# Altium schematic symbol library Controller-RK3562.SCHLIB: 538 symbols (part 2 of 5)
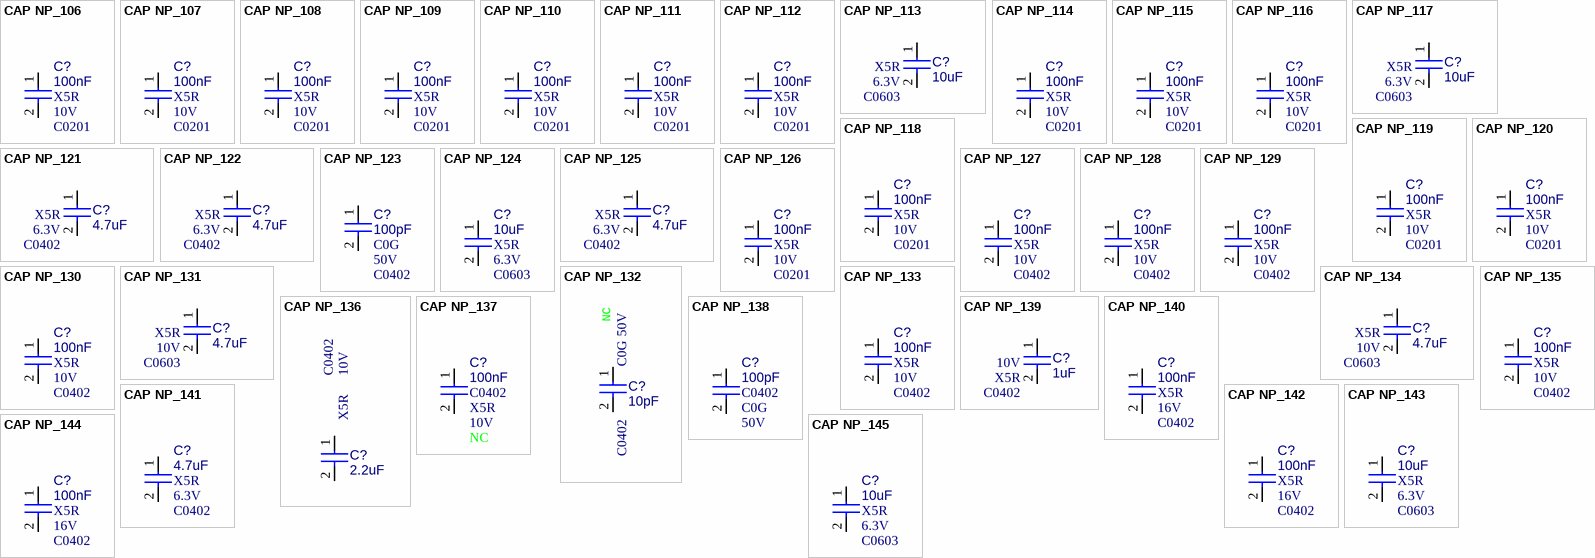
[diagram p21: symbols CAP NP_106 to CAP NP_145]

## CAP NP_125
designator C?, comment 4.7uF  Dielectric: X5R  PCB Footprint: C0402  Voltage: 6.3V
cap,4.70uF,+/-10%,6.3V,X5R,C0402; Part Reference: C3064; Manufacturer PN: C1005X5R0J475K050BC; Manufacturer: TDK; Tolerance: 10%; Priority: A; Number: 37; Value: 4.7uF; Created by: JJJ; C_Voltage: 6.3V; Part Type: C0402; RK PN: C1005X5R0J475K050BC; ClassName: RK
footprint C0402
pins: 1, 2

## CAP NP_126
designator C?, comment 100nF  Dielectric: X5R  PCB Footprint: C0201  Voltage: 10V
cap,100.00nF,+/-10%,10V,X5R,C0201; Part Reference: C3066; Manufacturer: TDK; RK PN: C0603X5R1A104K030BC; Priority: A; Tolerance: 10%; Value: 100nF; Part Type: C0201; Manufacturer PN: C0603X5R1A104K030BC; Created by: JJJ; ClassName: RK
footprint C0201
pins: 1, 2

## CAP NP_127
designator C?, comment 100nF  Dielectric: X5R  PCB Footprint: C0402  Voltage: 10V
cap,100.00nF,+/-10%,10V,X5R,C0402; Part Reference: C4000; Manufacturer PN: C1005X5R1A104K050BA; Manufacturer: TDK; Tolerance: 10%; Priority: A; Value: 100nF; Created by: JJJ; Part Type: C0402; RK PN: C1005X5R1A104K050BA; ClassName: RK
footprint C0402
pins: 1, 2

## CAP NP_128
designator C?, comment 100nF  Dielectric: X5R  PCB Footprint: C0402  Voltage: 10V
cap,100.00nF,+/-10%,10V,X5R,C0402; Part Reference: C4001; Manufacturer: TDK; RK PN: C1005X5R1A104K050BA; Priority: A; Tolerance: 10%; Value: 100nF; Part Type: C0402; Manufacturer PN: C1005X5R1A104K050BA; Created by: JJJ; ClassName: RK
footprint C0402
pins: 1, 2

## CAP NP_129
designator C?, comment 100nF  Dielectric: X5R  PCB Footprint: C0402  Voltage: 10V
cap,100.00nF,+/-10%,10V,X5R,C0402; Part Reference: C4002; Manufacturer: TDK; RK PN: C1005X5R1A104K050BA; Priority: A; Tolerance: 10%; Value: 100nF; Part Type: C0402; Manufacturer PN: C1005X5R1A104K050BA; Created by: JJJ; ClassName: RK
footprint C0402
pins: 1, 2

## CAP NP_130
designator C?, comment 100nF  Dielectric: X5R  PCB Footprint: C0402  Voltage: 10V
cap,100.00nF,+/-10%,10V,X5R,C0402; Part Reference: C4003; Manufacturer PN: C1005X5R1A104K050BA; Manufacturer: TDK; Tolerance: 10%; Priority: A; Value: 100nF; Created by: JJJ; Part Type: C0402; RK PN: C1005X5R1A104K050BA; ClassName: RK
footprint C0402
pins: 1, 2

## CAP NP_131
designator C?, comment 4.7uF  Dielectric: X5R  PCB Footprint: C0603  Voltage: 10V
cap,4.70uF,+/-10%,10V,X5R,C0603; Part Reference: C4004; Manufacturer: TDK; Number: 37; RK PN: C1608X5R1A475K080AC; Priority: A; Tolerance: 10%; C_Voltage: 6.3V; Value: 4.7uF; Part Type: C0603; Manufacturer PN: C1608X5R1A475K080AC; Created by: JJJ; ClassName: RK
footprint C0603
pins: 1, 2

## CAP NP_132
designator C?, comment 10pF  Dielectric: C0G  PCB Footprint: C0402  Voltage: 50V  option: NC
cap,10.00pF,+/-0.5,50V,C0G,C0402; Part Reference: C4005; Manufacturer: TDK; RK PN: C1005C0G1H100D050BA; Priority: A; Tolerance: +/-0.5pF; Value: 10pF; Part Type: C0402; Manufacturer PN: C1005C0G1H100D050BA; Created by: JJJ; ClassName: RK
footprint C0402
pins: 1, 2

## CAP NP_133
designator C?, comment 100nF  Dielectric: X5R  PCB Footprint: C0402  Voltage: 10V
cap,100.00nF,+/-10%,10V,X5R,C0402; Part Reference: C4006; Manufacturer PN: C1005X5R1A104K050BA; Manufacturer: TDK; Tolerance: 10%; Priority: A; Value: 100nF; Created by: JJJ; Part Type: C0402; RK PN: C1005X5R1A104K050BA; ClassName: RK
footprint C0402
pins: 1, 2

## CAP NP_134
designator C?, comment 4.7uF  Dielectric: X5R  PCB Footprint: C0603  Voltage: 10V
cap,4.70uF,+/-10%,10V,X5R,C0603; Part Reference: C4007; Manufacturer: TDK; Number: 37; RK PN: C1608X5R1A475K080AC; Priority: A; Tolerance: 10%; C_Voltage: 6.3V; Value: 4.7uF; Part Type: C0603; Manufacturer PN: C1608X5R1A475K080AC; Created by: JJJ; ClassName: RK
footprint C0603
pins: 1, 2

## CAP NP_135
designator C?, comment 100nF  Dielectric: X5R  PCB Footprint: C0402  Voltage: 10V
cap,100.00nF,+/-10%,10V,X5R,C0402; Part Reference: C4008; Manufacturer PN: C1005X5R1A104K050BA; Manufacturer: TDK; Tolerance: 10%; Priority: A; Value: 100nF; Created by: JJJ; Part Type: C0402; RK PN: C1005X5R1A104K050BA; ClassName: RK
footprint C0402
pins: 1, 2

## CAP NP_136
designator C?, comment 2.2uF  Dielectric: X5R  PCB Footprint: C0402  Voltage: 10V
cap,2.20uF,+/-10%,10V,X5R,C0402; Part Reference: C4009; Manufacturer: TDK; RK PN: C1005X5R1A225K050BC; Priority: A; Tolerance: 10%; Value: 2.2uF; Part Type: C0402; Manufacturer PN: C1005X5R1A225K050BC; Created by: JJJ; ClassName: RK
footprint C0402
pins: 1, 2

## CAP NP_137
designator C?, comment 100nF  Dielectric: X5R  PCB Footprint: C0402  Voltage: 10V  option: NC
cap,100.00nF,+/-10%,10V,X5R,C0402; Part Reference: C4010; Manufacturer PN: C1005X5R1A104K050BA; Manufacturer: TDK; Tolerance: 10%; Priority: A; Value: 100nF; Created by: JJJ; Part Type: C0402; RK PN: C1005X5R1A104K050BA; ClassName: RK
footprint C0402
pins: 1, 2

## CAP NP_138
designator C?, comment 100pF  Dielectric: C0G  PCB Footprint: C0402  Voltage: 50V
cap,100.00pF,+/-10%,50V,C0G,C0402; Part Reference: C7007; Manufacturer PN: C1005C0G1H101K050BA; Manufacturer: TDK; Tolerance: 10%; Priority: A; Value: 100pF; Created by: JJJ; Part Type: C0402; RK PN: C1005C0G1H101K050BA
footprint C0402
pins: 1, 2

## CAP NP_139
designator C?, comment 1uF  Dielectric: X5R  PCB Footprint: C0402  Voltage: 10V
cap,1.00uF,+/-10%,10V,X5R,C0402; Part Reference: C7005; Manufacturer: TDK; RK PN: C1005X5R1A105K050BB; Priority: A; Tolerance: 10%; Value: 1uF; Part Type: C0402; Manufacturer PN: C1005X5R1A105K050BB; Created by: JJJ
footprint C0402
pins: 1, 2

## CAP NP_140
designator C?, comment 100nF  Dielectric: X5R  PCB Footprint: C0402  Voltage: 16V
cap,100.00nF,+/-10%,16V,X5R,C0402; Part Reference: C4500; Manufacturer PN: C1005X5R1C104K050BA; Manufacturer: TDK; Tolerance: 10%; Priority: A; Value: 100nF; Created by: JJJ; Part Type: C0402; RK PN: C1005X5R1C104K050BA
footprint C0402
pins: 1, 2

## CAP NP_141
designator C?, comment 4.7uF  Dielectric: X5R  PCB Footprint: C0402  Voltage: 6.3V
cap,4.70uF,+/-10%,6.3V,X5R,C0402; Part Reference: C4501; Manufacturer PN: C1005X5R0J475K050BC; Manufacturer: TDK; Tolerance: 10%; Priority: A; Value: 4.7uF; Created by: JJJ; Part Type: C0402; RK PN: C1005X5R0J475K050BC
footprint C0402
pins: 1, 2

## CAP NP_142
designator C?, comment 100nF  Dielectric: X5R  PCB Footprint: C0402  Voltage: 16V
cap,100.00nF,+/-10%,16V,X5R,C0402; Part Reference: C4502; Manufacturer PN: C1005X5R1C104K050BA; Manufacturer: TDK; Tolerance: 10%; Priority: A; Value: 100nF; Created by: JJJ; Part Type: C0402; RK PN: C1005X5R1C104K050BA
footprint C0402
pins: 1, 2

## CAP NP_143
designator C?, comment 10uF  Dielectric: X5R  PCB Footprint: C0603  Voltage: 6.3V
cap,10.00uF,+/-10%,6.3V,X5R,C0603; Part Reference: C4503; Manufacturer PN: C1608X5R0J106K080AB; Manufacturer: TDK; Tolerance: 10%; Priority: A; Value: 10uF; Created by: JJJ; Part Type: C0603; RK PN: C1608X5R0J106K080AB
footprint C0603
pins: 1, 2

## CAP NP_144
designator C?, comment 100nF  Dielectric: X5R  PCB Footprint: C0402  Voltage: 16V
cap,100.00nF,+/-10%,16V,X5R,C0402; Part Reference: C4504; Manufacturer: TDK; RK PN: C1005X5R1C104K050BA; Priority: A; Tolerance: 10%; Value: 100nF; Part Type: C0402; Manufacturer PN: C1005X5R1C104K050BA; Created by: JJJ
footprint C0402
pins: 1, 2

## CAP NP_145
designator C?, comment 10uF  Dielectric: X5R  PCB Footprint: C0603  Voltage: 6.3V
cap,10.00uF,+/-10%,6.3V,X5R,C0603; Part Reference: C4505; Manufacturer: TDK; RK PN: C1608X5R0J106K080AB; Priority: A; Tolerance: 10%; Value: 10uF; Part Type: C0603; Manufacturer PN: C1608X5R0J106K080AB; Created by: JJJ
footprint C0603
pins: 1, 2

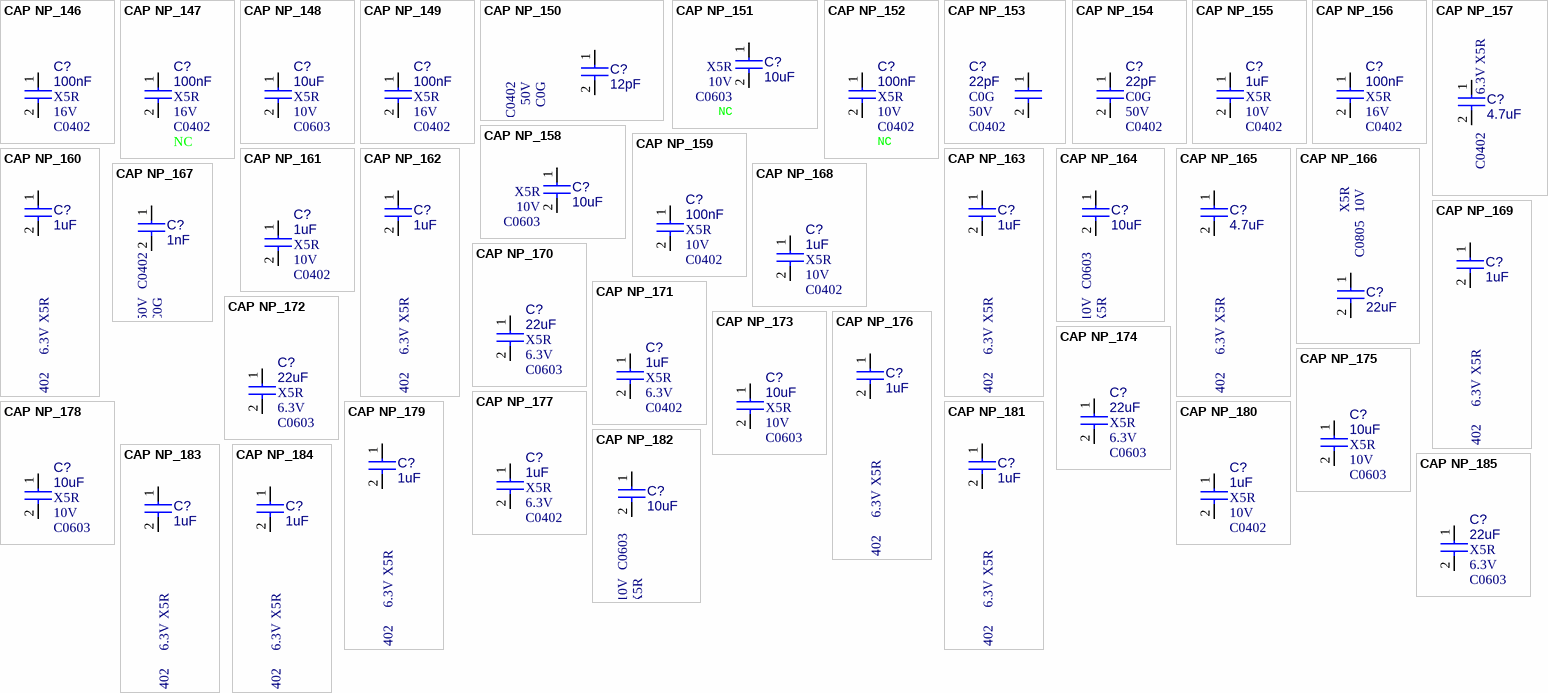
[diagram p4: symbols CAP NP_146 to CAP NP_185]

## CAP NP_146
designator C?, comment 100nF  Dielectric: X5R  PCB Footprint: C0402  Voltage: 16V
cap,100.00nF,+/-10%,16V,X5R,C0402; Part Reference: C4506; Manufacturer: TDK; RK PN: C1005X5R1C104K050BA; Priority: A; Tolerance: 10%; Value: 100nF; Part Type: C0402; Manufacturer PN: C1005X5R1C104K050BA; Created by: JJJ
footprint C0402
pins: 1, 2

## CAP NP_147
designator C?, comment 100nF  Dielectric: X5R  PCB Footprint: C0402  Voltage: 16V  Option: NC
cap,100.00nF,+/-10%,16V,X5R,C0402; Part Reference: C4507; Manufacturer PN: C1005X5R1C104K050BA; Manufacturer: TDK; Tolerance: 10%; Priority: A; Value: 100nF; Created by: JJJ; Part Type: C0402; RK PN: C1005X5R1C104K050BA
footprint C0402
pins: 1, 2

## CAP NP_148
designator C?, comment 10uF  Dielectric: X5R  PCB Footprint: C0603  Voltage: 10V
cap,10.00uF,+/-10%,10V,X5R,C0603; Part Reference: C6100; Manufacturer PN: C1608X5R1A106K080AC; Manufacturer: TDK; Tolerance: 10%; Priority: A; Value: 10uF; Created by: JJJ; Part Type: C0603; RK PN: C1608X5R1A106K080AC
footprint C0603
pins: 1, 2

## CAP NP_149
designator C?, comment 100nF  Dielectric: X5R  PCB Footprint: C0402  Voltage: 16V
cap,100.00nF,+/-10%,16V,X5R,C0402; Part Reference: C6101; Manufacturer PN: C1005X5R1C104K050BA; Manufacturer: TDK; C_Voltage: 10V; Tolerance: 10%; Priority: A; Number: 37; Value: 100nF; Created by: JJJ; Part Type: C0402; RK PN: C1005X5R1C104K050BA
footprint C0402
pins: 1, 2

## CAP NP_150
designator C?, comment 12pF  Dielectric: C0G  PCB Footprint: C0402  Voltage: 50V
cap,10.00pF,+/-0.5,50V,C0G,C0402; Part Reference: C6102; Manufacturer: TDK; Priority: A; Tolerance: +/-0.5pF; Value: 12pF; Part Type: C0402; Created by: JJJ
footprint C0402
pins: 1, 2

## CAP NP_151
designator C?, comment 10uF  Dielectric: X5R  PCB Footprint: C0603  Voltage: 10V  option: NC
cap,10.00uF,+/-10%,10V,X5R,C0603; Part Reference: C6103; Manufacturer PN: C1608X5R1A106K080AC; Manufacturer: TDK; Tolerance: 10%; C_Voltage: 6.3V; Priority: A; Value: 10uF; Created by: JJJ; Part Type: C0603; RK PN: C1608X5R1A106K080AC
footprint C0603
pins: 1, 2

## CAP NP_152
designator C?, comment 100nF  Dielectric: X5R  PCB Footprint: C0402  Voltage: 10V  option: NC
cap,100.00nF,+/-10%,10V,X5R,C0402; Part Reference: C6104; Manufacturer: TDK; Number: 37; RK PN: C1005X5R1A104K050BA; Priority: A; Tolerance: 10%; C_Voltage: 6.3V; Value: 100nF; Part Type: C0402; Manufacturer PN: C1005X5R1A104K050BA; Created by: JJJ
footprint C0402
pins: 1, 2

## CAP NP_153
designator C?, comment 22pF  Dielectric: C0G  PCB Footprint: C0402  Voltage: 50V
cap,22.00pF,+/-5%,50V,C0G,C0402; Part Reference: C6105; Manufacturer: TDK; RK PN: C1005C0G1H220J050BA; Priority: A; Tolerance: 5%; Value: 22pF; Part Type: C0402; Manufacturer PN: C1005C0G1H220J050BA; Created by: JJJ
footprint C0402
pins: 1, 2

## CAP NP_154
designator C?, comment 22pF  Dielectric: C0G  PCB Footprint: C0402  Voltage: 50V
cap,22.00pF,+/-5%,50V,C0G,C0402; Part Reference: C6106; Manufacturer: TDK; RK PN: C1005C0G1H220J050BA; Priority: A; Tolerance: 5%; Value: 22pF; Part Type: C0402; Manufacturer PN: C1005C0G1H220J050BA; Created by: JJJ
footprint C0402
pins: 1, 2

## CAP NP_155
designator C?, comment 1uF  Dielectric: X5R  PCB Footprint: C0402  Voltage: 10V
cap,1.00uF,+/-10%,10V,X5R,C0402; Part Reference: C6107; Manufacturer PN: C1005X5R1A105K050BB; Manufacturer: TDK; Tolerance: 10%; Priority: A; Value: 1uF; Created by: JJJ; Part Type: C0402; RK PN: C1005X5R1A105K050BB
footprint C0402
pins: 1, 2

## CAP NP_156
designator C?, comment 100nF  Dielectric: X5R  PCB Footprint: C0402  Voltage: 16V
cap,100.00nF,+/-10%,16V,X5R,C0402; Part Reference: C6108; Manufacturer: TDK; Number: 37; RK PN: C1005X5R1C104K050BA; Priority: A; Tolerance: 10%; C_Voltage: 10V; Value: 100nF; Part Type: C0402; Manufacturer PN: C1005X5R1C104K050BA; Created by: JJJ
footprint C0402
pins: 1, 2

## CAP NP_157
designator C?, comment 4.7uF  Dielectric: X5R  PCB Footprint: C0402  Voltage: 6.3V
cap,4.70uF,+/-10%,6.3V,X5R,C0402; Part Reference: C6109; Manufacturer: TDK; RK PN: C1005X5R0J475K050BC; Priority: A; Tolerance: 10%; Value: 4.7uF; Part Type: C0402; Manufacturer PN: C1005X5R0J475K050BC; Created by: JJJ
footprint C0402
pins: 1, 2

## CAP NP_158
designator C?, comment 10uF  Dielectric: X5R  PCB Footprint: C0603  Voltage: 10V
cap,10.00uF,+/-10%,10V,X5R,C0603; Part Reference: C4200; Manufacturer PN: C1608X5R1A106K080AC; Manufacturer: TDK; Tolerance: 10%; C_Voltage: 6.3V; Priority: A; Value: 10uF; Created by: JJJ; Part Type: C0603; RK PN: C1608X5R1A106K080AC
footprint C0603
pins: 1, 2

## CAP NP_159
designator C?, comment 100nF  Dielectric: X5R  PCB Footprint: C0402  Voltage: 10V
cap,100.00nF,+/-10%,10V,X5R,C0402; Part Reference: C4201; Manufacturer: TDK; RK PN: C1005X5R1A104K050BA; Priority: A; Tolerance: 10%; C_Voltage: 6.3V; Value: 100nF; Part Type: C0402; Manufacturer PN: C1005X5R1A104K050BA; Created by: JJJ
footprint C0402
pins: 1, 2

## CAP NP_160
designator C?, comment 1uF  Dielectric: X5R  PCB Footprint: C0402  Voltage: 6.3V
cap,1.00uF,+/-10%,6.3V,X5R,C0402; Part Reference: C2101; Manufacturer: TDK; RK PN: C1005X5R0J105K050BB; Priority: A; Tolerance: 10%; Value: 1uF; Part Type: C0402; Manufacturer PN: C1005X5R0J105K050BB; Created by: JJJ
footprint C0402
pins: 1, 2

## CAP NP_161
designator C?, comment 1uF  Dielectric: X5R  PCB Footprint: C0402  Voltage: 10V
cap,1.00uF,+/-10%,10V,X5R,C0402; Part Reference: C2102; Manufacturer: TDK; RK PN: C1005X5R1A105K050BB; Priority: A; Tolerance: 10%; Value: 1uF; Part Type: C0402; Manufacturer PN: C1005X5R1A105K050BB; Created by: JJJ
footprint C0402
pins: 1, 2

## CAP NP_162
designator C?, comment 1uF  Dielectric: X5R  PCB Footprint: C0402  Voltage: 6.3V
cap,1.00uF,+/-10%,6.3V,X5R,C0402; Part Reference: C2103; Manufacturer: TDK; RK PN: C1005X5R0J105K050BB; Priority: A; Tolerance: 10%; Value: 1uF; Part Type: C0402; Manufacturer PN: C1005X5R0J105K050BB; Created by: JJJ
footprint C0402
pins: 1, 2

## CAP NP_163
designator C?, comment 1uF  Dielectric: X5R  PCB Footprint: C0402  Voltage: 6.3V
cap,1.00uF,+/-10%,6.3V,X5R,C0402; Part Reference: C2104; Manufacturer: TDK; RK PN: C1005X5R0J105K050BB; Priority: A; Tolerance: 10%; Value: 1uF; Part Type: C0402; Manufacturer PN: C1005X5R0J105K050BB; Created by: JJJ
footprint C0402
pins: 1, 2

## CAP NP_164
designator C?, comment 10uF  Dielectric: X5R  PCB Footprint: C0603  Voltage: 10V
cap,10.00uF,+/-10%,10V,X5R,C0603; Part Reference: C2100; Manufacturer PN: C1608X5R1A106K080AC; Manufacturer: TDK; Tolerance: 10%; Priority: A; Value: 10uF; Created by: JJJ; Part Type: C0603; RK PN: C1608X5R1A106K080AC
footprint C0603
pins: 1, 2

## CAP NP_165
designator C?, comment 4.7uF  Dielectric: X5R  PCB Footprint: C0402  Voltage: 6.3V
cap,4.70uF,+/-10%,6.3V,X5R,C0402; Part Reference: C2105; Manufacturer PN: C1005X5R0J475K050BC; Manufacturer: TDK; Tolerance: 10%; Priority: A; Value: 4.7uF; Created by: JJJ; Part Type: C0402; RK PN: C1005X5R0J475K050BC
footprint C0402
pins: 1, 2

## CAP NP_166
designator C?, comment 22uF  Dielectric: X5R  PCB Footprint: C0805  Voltage: 10V
cap,22.00uF,+/-10%,10V,X5R,C0805; Part Reference: C2106; Manufacturer PN: C2012X5R1A226K125AB; Manufacturer: TDK; Tolerance: 10%; Priority: A; Value: 22uF; Created by: JJJ; Part Type: C0805; RK PN: C2012X5R1A226K125AB
footprint CAP-0805-S
pins: 1, 2

## CAP NP_167
designator C?, comment 1nF  Dielectric: C0G  PCB Footprint: C0402  Voltage: 50V
一般用片状陶瓷电容(GRM),cap,1nF,±5%,50V,C0G,C0402; Part Reference: C2107; Manufacturer: murata; Manufacturer PN: GRM1555C1H102JA01; RK PN: 902006462; Priority: A; Value: 1nF; Part Type: 一般用片状陶瓷电容; Tolerance: ±5%; Created by: JJJ
footprint C0402
pins: 1, 2

## CAP NP_168
designator C?, comment 1uF  Dielectric: X5R  PCB Footprint: C0402  Voltage: 10V
cap,1.00uF,+/-10%,10V,X5R,C0402; Part Reference: C2108; Manufacturer: TDK; RK PN: C1005X5R1A105K050BB; Priority: A; Tolerance: 10%; Value: 1uF; Part Type: C0402; Manufacturer PN: C1005X5R1A105K050BB; Created by: JJJ
footprint C0402
pins: 1, 2

## CAP NP_169
designator C?, comment 1uF  Dielectric: X5R  PCB Footprint: C0402  Voltage: 6.3V
cap,1.00uF,+/-10%,6.3V,X5R,C0402; Part Reference: C2109; Manufacturer: TDK; RK PN: C1005X5R0J105K050BB; Priority: A; Tolerance: 10%; Value: 1uF; Part Type: C0402; Manufacturer PN: C1005X5R0J105K050BB; Created by: JJJ
footprint C0402
pins: 1, 2

## CAP NP_170
designator C?, comment 22uF  Dielectric: X5R  PCB Footprint: C0603  Voltage: 6.3V
cap,22.00uF,+/-20%,6.3V,X5R,C0603; Part Reference: C2110; Manufacturer: TDK; RK PN: C1608X5R0J226M080AC; Priority: A; Tolerance: 20%; Value: 22uF; Part Type: C0603; Manufacturer PN: C1608X5R0J226M080AC; Created by: JJJ
footprint C0603
pins: 1, 2

## CAP NP_171
designator C?, comment 1uF  Dielectric: X5R  PCB Footprint: C0402  Voltage: 6.3V
cap,1.00uF,+/-10%,6.3V,X5R,C0402; Part Reference: C2111; Manufacturer PN: C1005X5R0J105K050BB; Manufacturer: TDK; Tolerance: 10%; Priority: A; Value: 1uF; Created by: JJJ; Part Type: C0402; RK PN: C1005X5R0J105K050BB
footprint C0402
pins: 1, 2

## CAP NP_172
designator C?, comment 22uF  Dielectric: X5R  PCB Footprint: C0603  Voltage: 6.3V
cap,22.00uF,+/-20%,6.3V,X5R,C0603; Part Reference: C2112; Manufacturer: TDK; RK PN: C1608X5R0J226M080AC; Priority: A; Tolerance: 20%; Value: 22uF; Part Type: C0603; Manufacturer PN: C1608X5R0J226M080AC; Created by: JJJ
footprint C0603
pins: 1, 2

## CAP NP_173
designator C?, comment 10uF  Dielectric: X5R  PCB Footprint: C0603  Voltage: 10V
cap,10.00uF,+/-10%,10V,X5R,C0603; Part Reference: C2113; Manufacturer: TDK; RK PN: C1608X5R1A106K080AC; Priority: A; Tolerance: 10%; Value: 10uF; Part Type: C0603; Manufacturer PN: C1608X5R1A106K080AC; Created by: JJJ
footprint C0603
pins: 1, 2

## CAP NP_174
designator C?, comment 22uF  Dielectric: X5R  PCB Footprint: C0603  Voltage: 6.3V
cap,22.00uF,+/-20%,6.3V,X5R,C0603; Part Reference: C2114; Manufacturer PN: C1608X5R0J226M080AC; Manufacturer: TDK; Tolerance: 20%; Priority: A; Value: 22uF; Created by: JJJ; Part Type: C0603; RK PN: C1608X5R0J226M080AC
footprint C0603
pins: 1, 2

## CAP NP_175
designator C?, comment 10uF  Dielectric: X5R  PCB Footprint: C0603  Voltage: 10V
cap,10.00uF,+/-10%,10V,X5R,C0603; Part Reference: C2115; Manufacturer PN: C1608X5R1A106K080AC; Manufacturer: TDK; Tolerance: 10%; Priority: A; Value: 10uF; Created by: JJJ; Part Type: C0603; RK PN: C1608X5R1A106K080AC
footprint C0603
pins: 1, 2

## CAP NP_176
designator C?, comment 1uF  Dielectric: X5R  PCB Footprint: C0402  Voltage: 6.3V
cap,1.00uF,+/-10%,6.3V,X5R,C0402; Part Reference: C2116; Manufacturer: TDK; RK PN: C1005X5R0J105K050BB; Priority: A; Tolerance: 10%; Value: 1uF; Part Type: C0402; Manufacturer PN: C1005X5R0J105K050BB; Created by: JJJ
footprint C0402
pins: 1, 2

## CAP NP_177
designator C?, comment 1uF  Dielectric: X5R  PCB Footprint: C0402  Voltage: 6.3V
cap,1.00uF,+/-10%,6.3V,X5R,C0402; Part Reference: C2117; Manufacturer PN: C1005X5R0J105K050BB; Manufacturer: TDK; Tolerance: 10%; Priority: A; Value: 1uF; Created by: JJJ; Part Type: C0402; RK PN: C1005X5R0J105K050BB
footprint C0402
pins: 1, 2

## CAP NP_178
designator C?, comment 10uF  Dielectric: X5R  PCB Footprint: C0603  Voltage: 10V
cap,10.00uF,+/-10%,10V,X5R,C0603; Part Reference: C2118; Manufacturer PN: C1608X5R1A106K080AC; Manufacturer: TDK; Tolerance: 10%; Priority: A; Value: 10uF; Created by: JJJ; Part Type: C0603; RK PN: C1608X5R1A106K080AC
footprint C0603
pins: 1, 2

## CAP NP_179
designator C?, comment 1uF  Dielectric: X5R  PCB Footprint: C0402  Voltage: 6.3V
cap,1.00uF,+/-10%,6.3V,X5R,C0402; Part Reference: C2119; Manufacturer: TDK; RK PN: C1005X5R0J105K050BB; Priority: A; Tolerance: 10%; Value: 1uF; Part Type: C0402; Manufacturer PN: C1005X5R0J105K050BB; Created by: JJJ
footprint C0402
pins: 1, 2

## CAP NP_180
designator C?, comment 1uF  Dielectric: X5R  PCB Footprint: C0402  Voltage: 10V
cap,1.00uF,+/-10%,10V,X5R,C0402; Part Reference: C2120; Manufacturer: TDK; RK PN: C1005X5R1A105K050BB; Priority: A; Tolerance: 10%; Value: 1uF; Part Type: C0402; Manufacturer PN: C1005X5R1A105K050BB; Created by: JJJ
footprint C0402
pins: 1, 2

## CAP NP_181
designator C?, comment 1uF  Dielectric: X5R  PCB Footprint: C0402  Voltage: 6.3V
cap,1.00uF,+/-10%,6.3V,X5R,C0402; Part Reference: C2121; Manufacturer: TDK; RK PN: C1005X5R0J105K050BB; Priority: A; Tolerance: 10%; Value: 1uF; Part Type: C0402; Manufacturer PN: C1005X5R0J105K050BB; Created by: JJJ
footprint C0402
pins: 1, 2

## CAP NP_182
designator C?, comment 10uF  Dielectric: X5R  PCB Footprint: C0603  Voltage: 10V
cap,10.00uF,+/-10%,10V,X5R,C0603; Part Reference: C2122; Manufacturer PN: C1608X5R1A106K080AC; Manufacturer: TDK; Tolerance: 10%; Priority: A; Value: 10uF; Created by: JJJ; Part Type: C0603; RK PN: C1608X5R1A106K080AC
footprint C0603
pins: 1, 2

## CAP NP_183
designator C?, comment 1uF  Dielectric: X5R  PCB Footprint: C0402  Voltage: 6.3V
cap,1.00uF,+/-10%,6.3V,X5R,C0402; Part Reference: C2123; Manufacturer: TDK; RK PN: C1005X5R0J105K050BB; Priority: A; Tolerance: 10%; Value: 1uF; Part Type: C0402; Manufacturer PN: C1005X5R0J105K050BB; Created by: JJJ
footprint C0402
pins: 1, 2

## CAP NP_184
designator C?, comment 1uF  Dielectric: X5R  PCB Footprint: C0402  Voltage: 6.3V
cap,1.00uF,+/-10%,6.3V,X5R,C0402; Part Reference: C2124; Manufacturer: TDK; RK PN: C1005X5R0J105K050BB; Priority: A; Tolerance: 10%; Value: 1uF; Part Type: C0402; Manufacturer PN: C1005X5R0J105K050BB; Created by: JJJ
footprint C0402
pins: 1, 2

## CAP NP_185
designator C?, comment 22uF  Dielectric: X5R  PCB Footprint: C0603  Voltage: 6.3V
cap,22.00uF,+/-20%,6.3V,X5R,C0603; Part Reference: C2125; Manufacturer: TDK; RK PN: C1608X5R0J226M080AC; Priority: A; Tolerance: 20%; Value: 22uF; Part Type: C0603; Manufacturer PN: C1608X5R0J226M080AC; Created by: JJJ
footprint C0603
pins: 1, 2

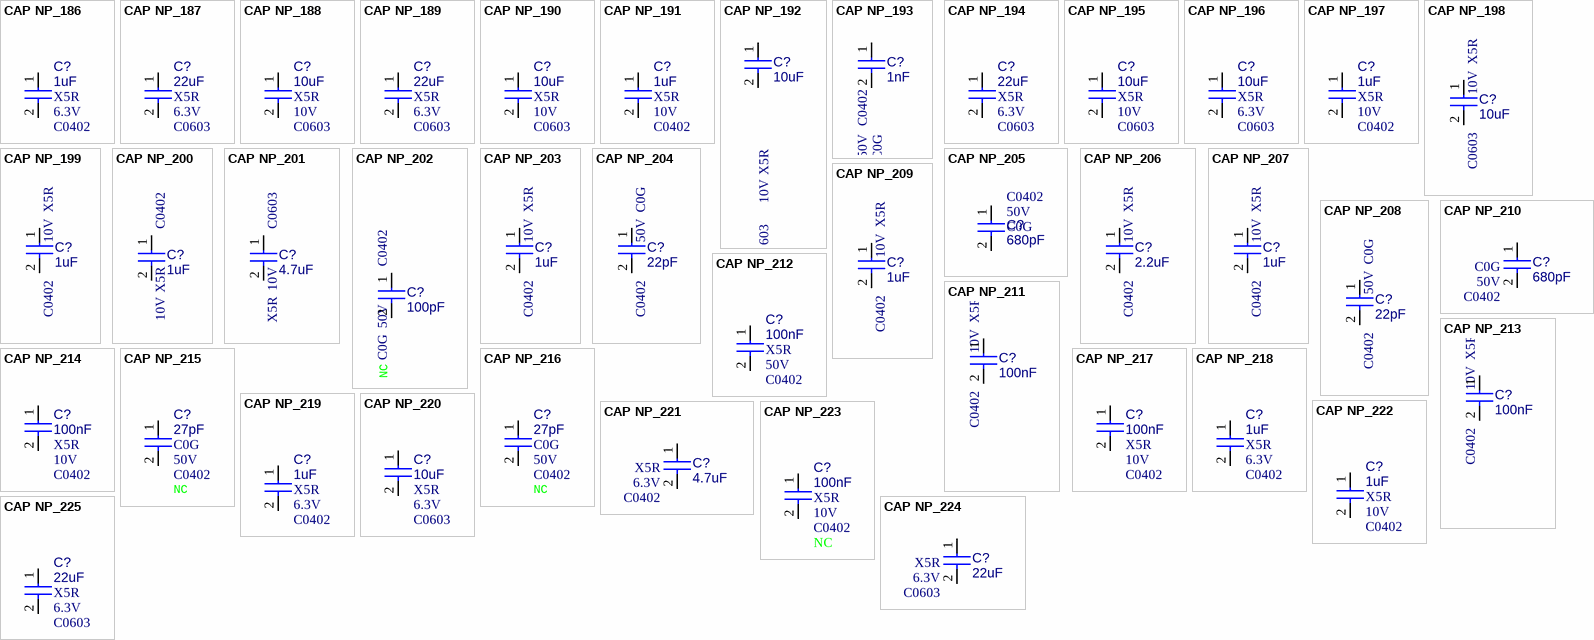
[diagram p5: symbols CAP NP_186 to CAP NP_225]

## CAP NP_186
designator C?, comment 1uF  Dielectric: X5R  PCB Footprint: C0402  Voltage: 6.3V
cap,1.00uF,+/-10%,6.3V,X5R,C0402; Part Reference: C2126; Manufacturer: TDK; RK PN: C1005X5R0J105K050BB; Priority: A; Tolerance: 10%; Value: 1uF; Part Type: C0402; Manufacturer PN: C1005X5R0J105K050BB; Created by: JJJ
footprint C0402
pins: 1, 2

## CAP NP_187
designator C?, comment 22uF  Dielectric: X5R  PCB Footprint: C0603  Voltage: 6.3V
cap,22.00uF,+/-20%,6.3V,X5R,C0603; Part Reference: C2127; Manufacturer: TDK; RK PN: C1608X5R0J226M080AC; Priority: A; Tolerance: 20%; Value: 22uF; Part Type: C0603; Manufacturer PN: C1608X5R0J226M080AC; Created by: JJJ
footprint C0603
pins: 1, 2

## CAP NP_188
designator C?, comment 10uF  Dielectric: X5R  PCB Footprint: C0603  Voltage: 10V
cap,10.00uF,+/-10%,10V,X5R,C0603; Part Reference: C2128; Manufacturer PN: C1608X5R1A106K080AC; Manufacturer: TDK; Tolerance: 10%; Priority: A; Value: 10uF; Created by: JJJ; Part Type: C0603; RK PN: C1608X5R1A106K080AC
footprint C0603
pins: 1, 2

## CAP NP_189
designator C?, comment 22uF  Dielectric: X5R  PCB Footprint: C0603  Voltage: 6.3V
cap,22.00uF,+/-20%,6.3V,X5R,C0603; Part Reference: C2129; Manufacturer: TDK; RK PN: C1608X5R0J226M080AC; Priority: A; Tolerance: 20%; Value: 22uF; Part Type: C0603; Manufacturer PN: C1608X5R0J226M080AC; Created by: JJJ
footprint C0603
pins: 1, 2

## CAP NP_190
designator C?, comment 10uF  Dielectric: X5R  PCB Footprint: C0603  Voltage: 10V
cap,10.00uF,+/-10%,10V,X5R,C0603; Part Reference: C2130; Manufacturer PN: C1608X5R1A106K080AC; Manufacturer: TDK; Tolerance: 10%; Priority: A; Value: 10uF; Created by: JJJ; Part Type: C0603; RK PN: C1608X5R1A106K080AC
footprint C0603
pins: 1, 2

## CAP NP_191
designator C?, comment 1uF  Dielectric: X5R  PCB Footprint: C0402  Voltage: 10V
cap,1.00uF,+/-10%,10V,X5R,C0402; Part Reference: C2131; Manufacturer: TDK; RK PN: C1005X5R1A105K050BB; Priority: A; Tolerance: 10%; Value: 1uF; Part Type: C0402; Manufacturer PN: C1005X5R1A105K050BB; Created by: JJJ
footprint C0402
pins: 1, 2

## CAP NP_192
designator C?, comment 10uF  Dielectric: X5R  PCB Footprint: C0603  Voltage: 10V
cap,10.00uF,+/-10%,10V,X5R,C0603; Part Reference: C2132; Manufacturer PN: C1608X5R1A106K080AC; Manufacturer: TDK; Tolerance: 10%; Priority: A; Value: 10uF; Created by: JJJ; Part Type: C0603; RK PN: C1608X5R1A106K080AC
footprint C0603
pins: 1, 2

## CAP NP_193
designator C?, comment 1nF  Dielectric: C0G  PCB Footprint: C0402  Voltage: 50V
一般用片状陶瓷电容(GRM),cap,1nF,±5%,50V,C0G,C0402; Part Reference: C2133; Manufacturer PN: GRM1555C1H102JA01; Manufacturer: murata; Priority: A; RK PN: 902006462; Value: 1nF; Created by: JJJ; Tolerance: ±5%; Part Type: 一般用片状陶瓷电容
footprint C0402
pins: 1, 2

## CAP NP_194
designator C?, comment 22uF  Dielectric: X5R  PCB Footprint: C0603  Voltage: 6.3V
cap,22.00uF,+/-20%,6.3V,X5R,C0603; Part Reference: C2135; Manufacturer: TDK; RK PN: C1608X5R0J226M080AC; Priority: A; Tolerance: 20%; Value: 22uF; Part Type: C0603; Manufacturer PN: C1608X5R0J226M080AC; Created by: JJJ
footprint C0603
pins: 1, 2

## CAP NP_195
designator C?, comment 10uF  Dielectric: X5R  PCB Footprint: C0603  Voltage: 10V
cap,10.00uF,+/-10%,10V,X5R,C0603; Part Reference: C2136; Manufacturer: TDK; RK PN: C1608X5R1A106K080AC; Priority: A; Tolerance: 10%; Value: 10uF; Part Type: C0603; Manufacturer PN: C1608X5R1A106K080AC; Created by: JJJ
footprint C0603
pins: 1, 2

## CAP NP_196
designator C?, comment 10uF  Dielectric: X5R  PCB Footprint: C0603  Voltage: 6.3V
一般用片状陶瓷电容(GRM),cap,10uF,±10%,6.3V,X5R,C0603; Part Reference: C2137; Manufacturer: murata; Manufacturer PN: GRM188R60J106KE47; RK PN: 902006684; Priority: A; Value: 10uF; Part Type: 一般用片状陶瓷电容; Tolerance: ±10%; Created by: JJJ
footprint C0603
pins: 1, 2

## CAP NP_197
designator C?, comment 1uF  Dielectric: X5R  PCB Footprint: C0402  Voltage: 10V
cap,1.00uF,+/-10%,10V,X5R,C0402; Part Reference: C2134; Manufacturer: TDK; RK PN: C1005X5R1A105K050BB; Priority: A; Tolerance: 10%; Value: 1uF; Part Type: C0402; Manufacturer PN: C1005X5R1A105K050BB; Created by: JJJ
footprint C0402
pins: 1, 2

## CAP NP_198
designator C?, comment 10uF  Dielectric: X5R  PCB Footprint: C0603  Voltage: 10V
cap,10.00uF,+/-10%,10V,X5R,C0603; Part Reference: C2138; Manufacturer PN: C1608X5R1A106K080AC; Manufacturer: TDK; Tolerance: 10%; Priority: A; Value: 10uF; Created by: JJJ; Part Type: C0603; RK PN: C1608X5R1A106K080AC
footprint C0603
pins: 1, 2

## CAP NP_199
designator C?, comment 1uF  Dielectric: X5R  PCB Footprint: C0402  Voltage: 10V
cap,1.00uF,+/-10%,10V,X5R,C0402; Part Reference: C2139; Manufacturer PN: C1005X5R1A105K050BB; Manufacturer: TDK; Tolerance: 10%; Priority: A; Value: 1uF; Created by: JJJ; Part Type: C0402; RK PN: C1005X5R1A105K050BB
footprint C0402
pins: 1, 2

## CAP NP_200
designator C?, comment 1uF  Dielectric: X5R  PCB Footprint: C0402  Voltage: 10V
cap,1.00uF,+/-10%,10V,X5R,C0402; Part Reference: C2140; Manufacturer PN: C1005X5R1A105K050BB; Manufacturer: TDK; Tolerance: 10%; Priority: A; Value: 1uF; Created by: JJJ; Part Type: C0402; RK PN: C1005X5R1A105K050BB
footprint C0402
pins: 1, 2

## CAP NP_201
designator C?, comment 4.7uF  Dielectric: X5R  PCB Footprint: C0603  Voltage: 10V
cap,4.70uF,+/-10%,10V,X5R,C0603; Part Reference: C2141; Manufacturer: TDK; Number: 37; RK PN: C1608X5R1A475K080AC; Priority: A; Tolerance: 10%; C_Voltage: 6.3V; Value: 4.7uF; Part Type: C0603; Manufacturer PN: C1608X5R1A475K080AC; Created by: JJJ
footprint C0603
pins: 1, 2

## CAP NP_202
designator C?, comment 100pF  Dielectric: C0G  PCB Footprint: C0402  Voltage: 50V  Option: NC
cap,100.00pF,+/-10%,50V,C0G,C0402; Part Reference: C2142; Manufacturer PN: C1005C0G1H101K050BA; Manufacturer: TDK; Tolerance: 10%; Priority: A; Value: 100pF; Created by: JJJ; Part Type: C0402; RK PN: C1005C0G1H101K050BA
footprint C0402
pins: 1, 2

## CAP NP_203
designator C?, comment 1uF  Dielectric: X5R  PCB Footprint: C0402  Voltage: 10V
cap,1.00uF,+/-10%,10V,X5R,C0402; Part Reference: C2143; Manufacturer PN: C1005X5R1A105K050BB; Manufacturer: TDK; Tolerance: 10%; Priority: A; Value: 1uF; Created by: JJJ; Part Type: C0402; RK PN: C1005X5R1A105K050BB
footprint C0402
pins: 1, 2

## CAP NP_204
designator C?, comment 22pF  Dielectric: C0G  PCB Footprint: C0402  Voltage: 50V
cap,22.00pF,+/-1%,50V,C0G,C0402; Part Reference: C2144; Manufacturer PN: C1005C0G1H220F050BA; Manufacturer: TDK; Tolerance: 1%; Priority: A; Value: 22pF; Created by: JJJ; Part Type: C0402; RK PN: C1005C0G1H220F050BA
footprint C0402
pins: 1, 2

## CAP NP_205
designator C?, comment 680pF  Dielectric: C0G  PCB Footprint: C0402  Voltage: 50V
cap,680.00pF,+/-5%,50V,C0G,C0402; Part Reference: C2145; Manufacturer PN: C1005C0G1H681J050BA; Manufacturer: TDK; Tolerance: 5%; Priority: A; Value: 680pF; Created by: JJJ; Part Type: C0402; RK PN: C1005C0G1H681J050BA
footprint C0402
pins: 1, 2

## CAP NP_206
designator C?, comment 2.2uF  Dielectric: X5R  PCB Footprint: C0402  Voltage: 10V
cap,2.20uF,+/-10%,10V,X5R,C0402; Part Reference: C2146; Manufacturer: TDK; RK PN: C1005X5R1A225K050BC; Priority: A; Tolerance: 10%; Value: 2.2uF; Part Type: C0402; Manufacturer PN: C1005X5R1A225K050BC; Created by: JJJ
footprint C0402
pins: 1, 2

## CAP NP_207
designator C?, comment 1uF  Dielectric: X5R  PCB Footprint: C0402  Voltage: 10V
cap,1.00uF,+/-10%,10V,X5R,C0402; Part Reference: C2147; Manufacturer PN: C1005X5R1A105K050BB; Manufacturer: TDK; Tolerance: 10%; Priority: A; Value: 1uF; Created by: JJJ; Part Type: C0402; RK PN: C1005X5R1A105K050BB
footprint C0402
pins: 1, 2

## CAP NP_208
designator C?, comment 22pF  Dielectric: C0G  PCB Footprint: C0402  Voltage: 50V
cap,22.00pF,+/-1%,50V,C0G,C0402; Part Reference: C2148; Manufacturer PN: C1005C0G1H220F050BA; Manufacturer: TDK; Tolerance: 1%; Priority: A; Value: 22pF; Created by: JJJ; Part Type: C0402; RK PN: C1005C0G1H220F050BA
footprint C0402
pins: 1, 2

## CAP NP_209
designator C?, comment 1uF  Dielectric: X5R  PCB Footprint: C0402  Voltage: 10V
cap,1.00uF,+/-10%,10V,X5R,C0402; Part Reference: C2149; Manufacturer: TDK; RK PN: C1005X5R1A105K050BB; Priority: A; Tolerance: 10%; Value: 1uF; Part Type: C0402; Manufacturer PN: C1005X5R1A105K050BB; Created by: JJJ
footprint C0402
pins: 1, 2

## CAP NP_210
designator C?, comment 680pF  Dielectric: C0G  PCB Footprint: C0402  Voltage: 50V
cap,680.00pF,+/-5%,50V,C0G,C0402; Part Reference: C2150; Manufacturer PN: C1005C0G1H681J050BA; Manufacturer: TDK; Tolerance: 5%; Priority: A; Value: 680pF; Created by: JJJ; Part Type: C0402; RK PN: C1005C0G1H681J050BA
footprint C0402
pins: 1, 2

## CAP NP_211
designator C?, comment 100nF  Dielectric: X5R  PCB Footprint: C0402  Voltage: 10V
cap,100.00nF,+/-10%,10V,X5R,C0402; Part Reference: C2151; Manufacturer: TDK; RK PN: C1005X5R1A104K050BA; Priority: A; Tolerance: 10%; Value: 100nF; Part Type: C0402; Manufacturer PN: C1005X5R1A104K050BA; Created by: JJJ
footprint C0402
pins: 1, 2

## CAP NP_212
designator C?, comment 100nF  Dielectric: X5R  PCB Footprint: C0402  Voltage: 50V
一般用片状陶瓷电容(GRM),cap,100nF,±10%,50V,X5R,C0402; Part Reference: C2152; Manufacturer PN: GRM155R61H104KE19; Manufacturer: murata; Priority: A; RK PN: 902000085; Value: 100nF; Created by: JJJ; Tolerance: ±10%; Part Type: 一般用片状陶瓷电容
footprint C0402
pins: 1, 2

## CAP NP_213
designator C?, comment 100nF  Dielectric: X5R  PCB Footprint: C0402  Voltage: 10V
cap,100.00nF,+/-10%,10V,X5R,C0402; Part Reference: C2153; Manufacturer PN: C1005X5R1A104K050BA; Manufacturer: TDK; Tolerance: 10%; Priority: A; Value: 100nF; Created by: JJJ; Part Type: C0402; RK PN: C1005X5R1A104K050BA
footprint C0402
pins: 1, 2

## CAP NP_214
designator C?, comment 100nF  Dielectric: X5R  PCB Footprint: C0402  Voltage: 10V
cap,100.00nF,+/-10%,10V,X5R,C0402; Part Reference: C2154; Manufacturer PN: C1005X5R1A104K050BA; Manufacturer: TDK; Tolerance: 10%; Priority: A; Value: 100nF; Created by: JJJ; Part Type: C0402; RK PN: C1005X5R1A104K050BA
footprint C0402
pins: 1, 2

## CAP NP_215
designator C?, comment 27pF  Dielectric: C0G  PCB Footprint: C0402  Voltage: 50V  Option: NC
cap,27.00pF,+/-5%,50V,C0G,C0402; Part Reference: C2156; Manufacturer: TDK; RK PN: C1005C0G1H270J050BA; Priority: A; Tolerance: 5%; Value: 27pF; Part Type: C0402; Manufacturer PN: C1005C0G1H270J050BA; Created by: JJJ
footprint C0402
pins: 1, 2

## CAP NP_216
designator C?, comment 27pF  Dielectric: C0G  PCB Footprint: C0402  Voltage: 50V  Option: NC
cap,27.00pF,+/-5%,50V,C0G,C0402; Part Reference: C2157; Manufacturer PN: C1005C0G1H270J050BA; Manufacturer: TDK; Tolerance: 5%; Priority: A; Value: 27pF; Created by: JJJ; Part Type: C0402; RK PN: C1005C0G1H270J050BA
footprint C0402
pins: 1, 2

## CAP NP_217
designator C?, comment 100nF  Dielectric: X5R  PCB Footprint: C0402  Voltage: 10V
cap,100.00nF,+/-10%,10V,X5R,C0402; Part Reference: C2155; Manufacturer PN: C1005X5R1A104K050BA; Manufacturer: TDK; Tolerance: 10%; Priority: A; Value: 100nF; Created by: JJJ; Part Type: C0402; RK PN: C1005X5R1A104K050BA
footprint C0402
pins: 1, 2

## CAP NP_218
designator C?, comment 1uF  Dielectric: X5R  PCB Footprint: C0402  Voltage: 6.3V
cap,1.00uF,+/-10%,6.3V,X5R,C0402; Part Reference: C2200; Manufacturer PN: C1005X5R0J105K050BB; Manufacturer: TDK; Tolerance: 10%; Priority: A; Value: 1uF; Created by: JJJ; Part Type: C0402; RK PN: C1005X5R0J105K050BB
footprint C0402
pins: 1, 2

## CAP NP_219
designator C?, comment 1uF  Dielectric: X5R  PCB Footprint: C0402  Voltage: 6.3V
cap,1.00uF,+/-10%,6.3V,X5R,C0402; Part Reference: C2201; Manufacturer: TDK; RK PN: C1005X5R0J105K050BB; Priority: A; Tolerance: 10%; Value: 1uF; Part Type: C0402; Manufacturer PN: C1005X5R0J105K050BB; Created by: JJJ
footprint C0402
pins: 1, 2

## CAP NP_220
designator C?, comment 10uF  Dielectric: X5R  PCB Footprint: C0603  Voltage: 6.3V
cap,10.00uF,+/-10%,6.3V,X5R,C0603; Part Reference: C2202; Manufacturer PN: C1608X5R0J106K080AB; Manufacturer: TDK; Tolerance: 10%; Priority: A; Value: 10uF; Created by: JJJ; Part Type: C0603; RK PN: C1608X5R0J106K080AB
footprint C0603
pins: 1, 2

## CAP NP_221
designator C?, comment 4.7uF  Dielectric: X5R  PCB Footprint: C0402  Voltage: 6.3V
cap,4.70uF,+/-10%,6.3V,X5R,C0402; Part Reference: C2203; Manufacturer: TDK; RK PN: C1005X5R0J475K050BC; Priority: A; Tolerance: 10%; Value: 4.7uF; Part Type: C0402; Manufacturer PN: C1005X5R0J475K050BC; Created by: JJJ
footprint C0402
pins: 1, 2

## CAP NP_222
designator C?, comment 1uF  Dielectric: X5R  PCB Footprint: C0402  Voltage: 10V
cap,1.00uF,+/-10%,10V,X5R,C0402; Part Reference: C2207; Manufacturer: TDK; RK PN: C1005X5R1A105K050BB; Priority: A; Tolerance: 10%; Value: 1uF; Part Type: C0402; Manufacturer PN: C1005X5R1A105K050BB; Created by: JJJ
footprint C0402
pins: 1, 2

## CAP NP_223
designator C?, comment 100nF  Dielectric: X5R  PCB Footprint: C0402  Voltage: 10V  option: NC
cap,100.00nF,+/-10%,10V,X5R,C0402; Part Reference: C2204; Manufacturer: TDK; RK PN: C1005X5R1A104K050BA; Priority: A; Tolerance: 10%; Value: 100nF; Part Type: C0402; Manufacturer PN: C1005X5R1A104K050BA; Created by: JJJ
footprint C0402
pins: 1, 2

## CAP NP_224
designator C?, comment 22uF  Dielectric: X5R  PCB Footprint: C0603  Voltage: 6.3V
cap,22.00uF,+/-20%,6.3V,X5R,C0603; Part Reference: C2205; Manufacturer: TDK; RK PN: C1608X5R0J226M080AC; Priority: A; Tolerance: 20%; Value: 22uF; Part Type: C0603; C_Voltage: 6.3V; Manufacturer PN: C1608X5R0J226M080AC; Created by: JJJ
footprint C0603
pins: 1, 2

## CAP NP_225
designator C?, comment 22uF  Dielectric: X5R  PCB Footprint: C0603  Voltage: 6.3V
cap,22.00uF,+/-20%,6.3V,X5R,C0603; Part Reference: C2206; Manufacturer PN: C1608X5R0J226M080AC; Manufacturer: TDK; Tolerance: 20%; Priority: A; Number: 37; Value: 22uF; Created by: JJJ; C_Voltage: 6.3V; Part Type: C0603; RK PN: C1608X5R0J226M080AC
footprint C0603
pins: 1, 2

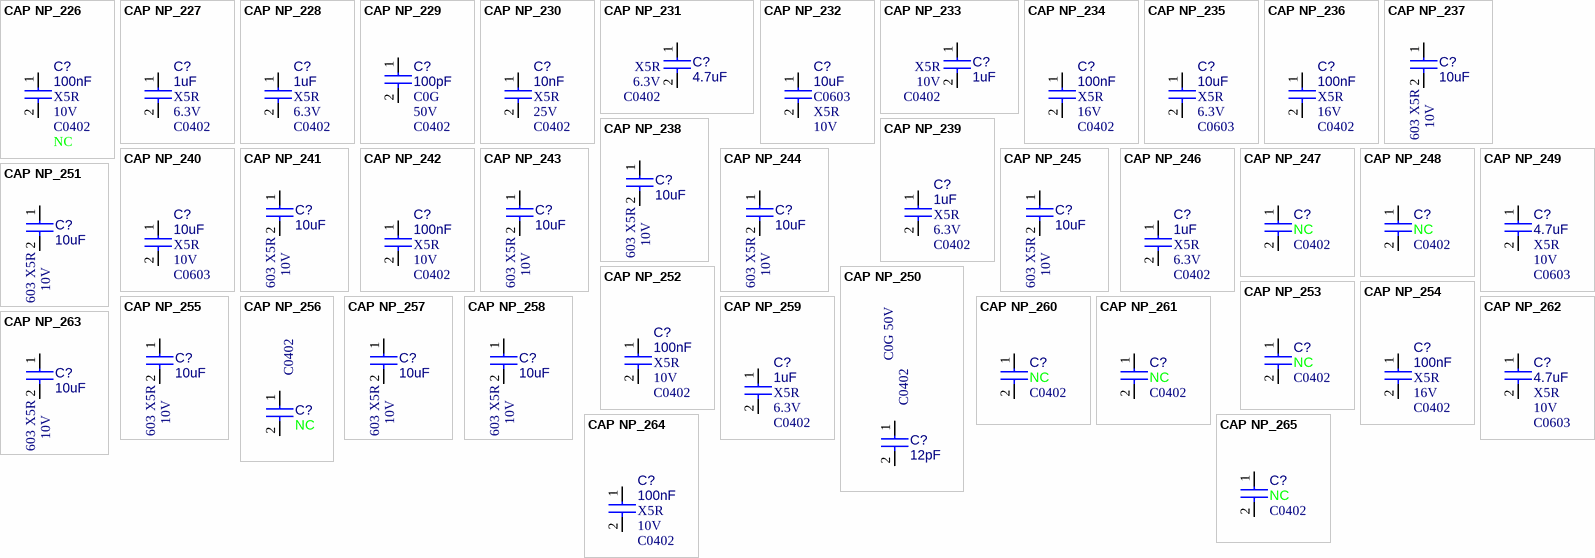
[diagram p6: symbols CAP NP_226 to CAP NP_265]

## CAP NP_226
designator C?, comment 100nF  Dielectric: X5R  PCB Footprint: C0402  Voltage: 10V  option: NC
cap,100.00nF,+/-10%,10V,X5R,C0402; Part Reference: C2208; Manufacturer PN: C1005X5R1A104K050BA; Manufacturer: TDK; Tolerance: 10%; Priority: A; Value: 100nF; Created by: JJJ; Part Type: C0402; RK PN: C1005X5R1A104K050BA
footprint C0402
pins: 1, 2

## CAP NP_227
designator C?, comment 1uF  Dielectric: X5R  PCB Footprint: C0402  Voltage: 6.3V
cap,1.00uF,+/-10%,6.3V,X5R,C0402; Part Reference: C2209; Manufacturer: TDK; RK PN: C1005X5R0J105K050BB; Priority: A; Tolerance: 10%; Value: 1uF; Part Type: C0402; Manufacturer PN: C1005X5R0J105K050BB; Created by: JJJ
footprint C0402
pins: 1, 2

## CAP NP_228
designator C?, comment 1uF  Dielectric: X5R  PCB Footprint: C0402  Voltage: 6.3V
cap,1.00uF,+/-10%,6.3V,X5R,C0402; Part Reference: C2210; Manufacturer PN: C1005X5R0J105K050BB; Manufacturer: TDK; Tolerance: 10%; Priority: A; Value: 1uF; Created by: JJJ; Part Type: C0402; RK PN: C1005X5R0J105K050BB
footprint C0402
pins: 1, 2

## CAP NP_229
designator C?, comment 100pF  Dielectric: C0G  PCB Footprint: C0402  Voltage: 50V
cap,100.00pF,+/-10%,50V,C0G,C0402; Part Reference: C2211; Manufacturer: TDK; RK PN: C1005C0G1H101K050BA; Priority: A; Tolerance: 10%; Value: 100pF; Part Type: C0402; Manufacturer PN: C1005C0G1H101K050BA; Created by: JJJ
footprint C0402
pins: 1, 2

## CAP NP_230
designator C?, comment 10nF  Dielectric: X5R  PCB Footprint: C0402  Voltage: 25V
cap,10.00nF,+/-10%,25V,X5R,C0402; Part Reference: C2212; Manufacturer: TDK; RK PN: C1005X5R1E103K050BA; Priority: A; Tolerance: 10%; Value: 10nF; Part Type: C0402; Manufacturer PN: C1005X5R1E103K050BA; Created by: JJJ
footprint C0402
pins: 1, 2

## CAP NP_231
designator C?, comment 4.7uF  Dielectric: X5R  PCB Footprint: C0402  Voltage: 6.3V
cap,4.70uF,+/-10%,6.3V,X5R,C0402; Part Reference: C2213; Manufacturer PN: C1005X5R0J475K050BC; Manufacturer: TDK; Tolerance: 10%; Priority: A; Value: 4.7uF; Created by: JJJ; Part Type: C0402; RK PN: C1005X5R0J475K050BC
footprint C0402
pins: 1, 2

## CAP NP_232
designator C?, comment 10uF  Dielectric: X5R  PCB Footprint: C0603  Voltage: 10V
一般用片状陶瓷电容(GRM),cap,10uF,±10%,10V,X5R,C0603; Part Reference: C2214; Manufacturer: murata; Manufacturer PN: GRM188R61A106KAAL; RK PN: 902006688; Priority: A; Value: 10uF; Part Type: 一般用片状陶瓷电容; Tolerance: ±10%; Created by: JJJ
footprint C0603
pins: 1, 2

## CAP NP_233
designator C?, comment 1uF  Dielectric: X5R  PCB Footprint: C0402  Voltage: 10V
cap,1.00uF,+/-10%,10V,X5R,C0402; Part Reference: C2215; Manufacturer: TDK; RK PN: C1005X5R1A105K050BB; Priority: A; Tolerance: 10%; Value: 1uF; Part Type: C0402; Manufacturer PN: C1005X5R1A105K050BB; Created by: JJJ
footprint C0402
pins: 1, 2

## CAP NP_234
designator C?, comment 100nF  Dielectric: X5R  PCB Footprint: C0402  Voltage: 16V
cap,100.00nF,+/-10%,16V,X5R,C0402; Part Reference: C2216; Manufacturer PN: C1005X5R1C104K050BA; Manufacturer: TDK; Tolerance: 10%; Priority: A; Value: 100nF; Created by: JJJ; Part Type: C0402; RK PN: C1005X5R1C104K050BA
footprint C0402
pins: 1, 2

## CAP NP_235
designator C?, comment 10uF  Dielectric: X5R  PCB Footprint: C0603  Voltage: 6.3V
cap,10.00uF,+/-10%,6.3V,X5R,C0603; Part Reference: C2217; Manufacturer PN: C1608X5R0J106K080AB; Manufacturer: TDK; Tolerance: 10%; Priority: A; Value: 10uF; Created by: JJJ; Part Type: C0603; RK PN: C1608X5R0J106K080AB
footprint C0603
pins: 1, 2

## CAP NP_236
designator C?, comment 100nF  Dielectric: X5R  PCB Footprint: C0402  Voltage: 16V
cap,100.00nF,+/-10%,16V,X5R,C0402; Part Reference: C2218; Manufacturer: TDK; RK PN: C1005X5R1C104K050BA; Priority: A; Tolerance: 10%; Value: 100nF; Part Type: C0402; Manufacturer PN: C1005X5R1C104K050BA; Created by: JJJ
footprint C0402
pins: 1, 2

## CAP NP_237
designator C?, comment 10uF  Dielectric: X5R  PCB Footprint: C0603  Voltage: 10V
cap,10.00uF,+/-10%,10V,X5R,C0603; Part Reference: C2219; Manufacturer: TDK; RK PN: C1608X5R1A106K080AC; Priority: A; Tolerance: 10%; Value: 10uF; Part Type: C0603; Manufacturer PN: C1608X5R1A106K080AC; Created by: JJJ
footprint C0603
pins: 1, 2

## CAP NP_238
designator C?, comment 10uF  Dielectric: X5R  PCB Footprint: C0603  Voltage: 10V
cap,10.00uF,+/-10%,10V,X5R,C0603; Part Reference: C2220; Manufacturer: TDK; RK PN: C1608X5R1A106K080AC; Priority: A; Tolerance: 10%; Value: 10uF; Part Type: C0603; Manufacturer PN: C1608X5R1A106K080AC; Created by: JJJ
footprint C0603
pins: 1, 2

## CAP NP_239
designator C?, comment 1uF  Dielectric: X5R  PCB Footprint: C0402  Voltage: 6.3V
cap,1.00uF,+/-10%,6.3V,X5R,C0402; Part Reference: C2221; Manufacturer: TDK; RK PN: C1005X5R0J105K050BB; Priority: A; Tolerance: 10%; Value: 1uF; Part Type: C0402; Manufacturer PN: C1005X5R0J105K050BB; Created by: JJJ
footprint C0402
pins: 1, 2

## CAP NP_240
designator C?, comment 10uF  Dielectric: X5R  PCB Footprint: C0603  Voltage: 10V
cap,10.00uF,+/-10%,10V,X5R,C0603; Part Reference: C2222; Manufacturer: TDK; RK PN: C1608X5R1A106K080AC; Priority: A; Tolerance: 10%; Value: 10uF; Part Type: C0603; Manufacturer PN: C1608X5R1A106K080AC; Created by: JJJ
footprint C0603
pins: 1, 2

## CAP NP_241
designator C?, comment 10uF  Dielectric: X5R  PCB Footprint: C0603  Voltage: 10V
cap,10.00uF,+/-10%,10V,X5R,C0603; Part Reference: C2223; Manufacturer: TDK; RK PN: C1608X5R1A106K080AC; Priority: A; Tolerance: 10%; Value: 10uF; Part Type: C0603; Manufacturer PN: C1608X5R1A106K080AC; Created by: JJJ
footprint C0603
pins: 1, 2

## CAP NP_242
designator C?, comment 100nF  Dielectric: X5R  PCB Footprint: C0402  Voltage: 10V
cap,100.00nF,+/-10%,10V,X5R,C0402; Part Reference: C2224; Manufacturer: TDK; RK PN: C1005X5R1A104K050BA; Priority: A; Tolerance: 10%; Value: 100nF; Part Type: C0402; Manufacturer PN: C1005X5R1A104K050BA; Created by: JJJ
footprint C0402
pins: 1, 2

## CAP NP_243
designator C?, comment 10uF  Dielectric: X5R  PCB Footprint: C0603  Voltage: 10V
cap,10.00uF,+/-10%,10V,X5R,C0603; Part Reference: C2225; Manufacturer: TDK; RK PN: C1608X5R1A106K080AC; Priority: A; Tolerance: 10%; Value: 10uF; Part Type: C0603; Manufacturer PN: C1608X5R1A106K080AC; Created by: JJJ
footprint C0603
pins: 1, 2

## CAP NP_244
designator C?, comment 10uF  Dielectric: X5R  PCB Footprint: C0603  Voltage: 10V
cap,10.00uF,+/-10%,10V,X5R,C0603; Part Reference: C2226; Manufacturer: TDK; RK PN: C1608X5R1A106K080AC; Priority: A; Tolerance: 10%; Value: 10uF; Part Type: C0603; Manufacturer PN: C1608X5R1A106K080AC; Created by: JJJ
footprint C0603
pins: 1, 2

## CAP NP_245
designator C?, comment 10uF  Dielectric: X5R  PCB Footprint: C0603  Voltage: 10V
cap,10.00uF,+/-10%,10V,X5R,C0603; Part Reference: C2227; Manufacturer: TDK; RK PN: C1608X5R1A106K080AC; Priority: A; Tolerance: 10%; Value: 10uF; Part Type: C0603; Manufacturer PN: C1608X5R1A106K080AC; Created by: JJJ
footprint C0603
pins: 1, 2

## CAP NP_246
designator C?, comment 1uF  Dielectric: X5R  PCB Footprint: C0402  Voltage: 6.3V
cap,1.00uF,+/-10%,6.3V,X5R,C0402; Part Reference: C2229; Manufacturer PN: C1005X5R0J105K050BB; Manufacturer: TDK; Tolerance: 10%; Priority: A; Value: 1uF; Created by: JJJ; Part Type: C0402; RK PN: C1005X5R0J105K050BB
footprint C0402
pins: 1, 2

## CAP NP_247
designator C?, comment NC  PCB Footprint: C0402
Did Not Place.; Part Reference: C2230; Manufacturer PN: DNPC0402; Priority: A; Value: NC; Created by: JJJ; Part Type: DNP; RK PN: DNPC0402
footprint C0402
pins: 1, 2

## CAP NP_248
designator C?, comment NC  PCB Footprint: C0402
Did Not Place.; Part Reference: C2231; RK PN: DNPC0402; Priority: A; Value: NC; Part Type: DNP; Manufacturer PN: DNPC0402; Created by: JJJ
footprint C0402
pins: 1, 2

## CAP NP_249
designator C?, comment 4.7uF  Dielectric: X5R  PCB Footprint: C0603  Voltage: 10V
cap,4.70uF,+/-10%,10V,X5R,C0603; Part Reference: C2232; Manufacturer: TDK; RK PN: C1608X5R1A475K080AC; Priority: A; Tolerance: 10%; Value: 4.7uF; Part Type: C0603; Manufacturer PN: C1608X5R1A475K080AC; Created by: JJJ
footprint C0603
pins: 1, 2

## CAP NP_250
designator C?, comment 12pF  Dielectric: C0G  PCB Footprint: C0402  Voltage: 50V
cap,12.00pF,+/-5%,50V,C0G,C0402; Part Reference: C2228; Manufacturer: TDK; RK PN: C1005C0G1H120J050BA; Priority: A; Tolerance: 5%; Value: 12pF; Part Type: C0402; Manufacturer PN: C1005C0G1H120J050BA; Created by: JJJ
footprint C0402
pins: 1, 2

## CAP NP_251
designator C?, comment 10uF  Dielectric: X5R  PCB Footprint: C0603  Voltage: 10V
cap,10.00uF,+/-10%,10V,X5R,C0603; Part Reference: C2233; Manufacturer: TDK; RK PN: C1608X5R1A106K080AC; Priority: A; Tolerance: 10%; Value: 10uF; Part Type: C0603; Manufacturer PN: C1608X5R1A106K080AC; Created by: JJJ
footprint C0603
pins: 1, 2

## CAP NP_252
designator C?, comment 100nF  Dielectric: X5R  PCB Footprint: C0402  Voltage: 10V
cap,100.00nF,+/-10%,10V,X5R,C0402; Part Reference: C2235; Manufacturer PN: C1005X5R1A104K050BA; Manufacturer: TDK; Tolerance: 10%; Priority: A; Value: 100nF; Created by: JJJ; Part Type: C0402; RK PN: C1005X5R1A104K050BA
footprint C0402
pins: 1, 2

## CAP NP_253
designator C?, comment NC  PCB Footprint: C0402
Did Not Place.; Part Reference: C2234; RK PN: DNPC0402; Priority: A; Value: NC; Part Type: DNP; Manufacturer PN: DNPC0402; Created by: JJJ
footprint C0402
pins: 1, 2

## CAP NP_254
designator C?, comment 100nF  Dielectric: X5R  PCB Footprint: C0402  Voltage: 16V
cap,100.00nF,+/-10%,16V,X5R,C0402; Part Reference: C2237; Manufacturer PN: C1005X5R1C104K050BA; Manufacturer: TDK; Tolerance: 10%; Priority: A; Value: 100nF; Created by: JJJ; Part Type: C0402; RK PN: C1005X5R1C104K050BA
footprint C0402
pins: 1, 2

## CAP NP_255
designator C?, comment 10uF  Dielectric: X5R  PCB Footprint: C0603  Voltage: 10V
cap,10.00uF,+/-10%,10V,X5R,C0603; Part Reference: C2236; Manufacturer: TDK; RK PN: C1608X5R1A106K080AC; Priority: A; Tolerance: 10%; Value: 10uF; Part Type: C0603; Manufacturer PN: C1608X5R1A106K080AC; Created by: JJJ
footprint C0603
pins: 1, 2

## CAP NP_256
designator C?, comment NC  PCB Footprint: C0402
Did Not Place.; Part Reference: C2238; RK PN: DNPC0402; Priority: A; Value: NC; Part Type: DNP; Manufacturer PN: DNPC0402; Created by: JJJ
footprint C0402
pins: 1, 2

## CAP NP_257
designator C?, comment 10uF  Dielectric: X5R  PCB Footprint: C0603  Voltage: 10V
cap,10.00uF,+/-10%,10V,X5R,C0603; Part Reference: C2239; Manufacturer: TDK; RK PN: C1608X5R1A106K080AC; Priority: A; Tolerance: 10%; Value: 10uF; Part Type: C0603; Manufacturer PN: C1608X5R1A106K080AC; Created by: JJJ
footprint C0603
pins: 1, 2

## CAP NP_258
designator C?, comment 10uF  Dielectric: X5R  PCB Footprint: C0603  Voltage: 10V
cap,10.00uF,+/-10%,10V,X5R,C0603; Part Reference: C2240; Manufacturer: TDK; RK PN: C1608X5R1A106K080AC; Priority: A; Tolerance: 10%; Value: 10uF; Part Type: C0603; Manufacturer PN: C1608X5R1A106K080AC; Created by: JJJ
footprint C0603
pins: 1, 2

## CAP NP_259
designator C?, comment 1uF  Dielectric: X5R  PCB Footprint: C0402  Voltage: 6.3V
cap,1.00uF,+/-10%,6.3V,X5R,C0402; Part Reference: C2241; Manufacturer PN: C1005X5R0J105K050BB; Manufacturer: TDK; Tolerance: 10%; Priority: A; Value: 1uF; Created by: JJJ; Part Type: C0402; RK PN: C1005X5R0J105K050BB
footprint C0402
pins: 1, 2

## CAP NP_260
designator C?, comment NC  PCB Footprint: C0402
Did Not Place.; Part Reference: C2242; Manufacturer PN: DNPC0402; Priority: A; Value: NC; Created by: JJJ; Part Type: DNP; RK PN: DNPC0402
footprint C0402
pins: 1, 2

## CAP NP_261
designator C?, comment NC  PCB Footprint: C0402
Did Not Place.; Part Reference: C2243; RK PN: DNPC0402; Priority: A; Value: NC; Part Type: DNP; Manufacturer PN: DNPC0402; Created by: JJJ
footprint C0402
pins: 1, 2

## CAP NP_262
designator C?, comment 4.7uF  Dielectric: X5R  PCB Footprint: C0603  Voltage: 10V
cap,4.70uF,+/-10%,10V,X5R,C0603; Part Reference: C2244; Manufacturer: TDK; RK PN: C1608X5R1A475K080AC; Priority: A; Tolerance: 10%; Value: 4.7uF; Part Type: C0603; Manufacturer PN: C1608X5R1A475K080AC; Created by: JJJ
footprint C0603
pins: 1, 2

## CAP NP_263
designator C?, comment 10uF  Dielectric: X5R  PCB Footprint: C0603  Voltage: 10V
cap,10.00uF,+/-10%,10V,X5R,C0603; Part Reference: C2245; Manufacturer: TDK; RK PN: C1608X5R1A106K080AC; Priority: A; Tolerance: 10%; Value: 10uF; Part Type: C0603; Manufacturer PN: C1608X5R1A106K080AC; Created by: JJJ
footprint C0603
pins: 1, 2

## CAP NP_264
designator C?, comment 100nF  Dielectric: X5R  PCB Footprint: C0402  Voltage: 10V
cap,100.00nF,+/-10%,10V,X5R,C0402; Part Reference: C2246; Manufacturer PN: C1005X5R1A104K050BA; Manufacturer: TDK; Tolerance: 10%; Priority: A; Value: 100nF; Created by: JJJ; Part Type: C0402; RK PN: C1005X5R1A104K050BA
footprint C0402
pins: 1, 2

## CAP NP_265
designator C?, comment NC  PCB Footprint: C0402
Did Not Place.; Part Reference: C2247; RK PN: DNPC0402; Priority: A; Value: NC; Part Type: DNP; Manufacturer PN: DNPC0402; Created by: JJJ
footprint C0402
pins: 1, 2

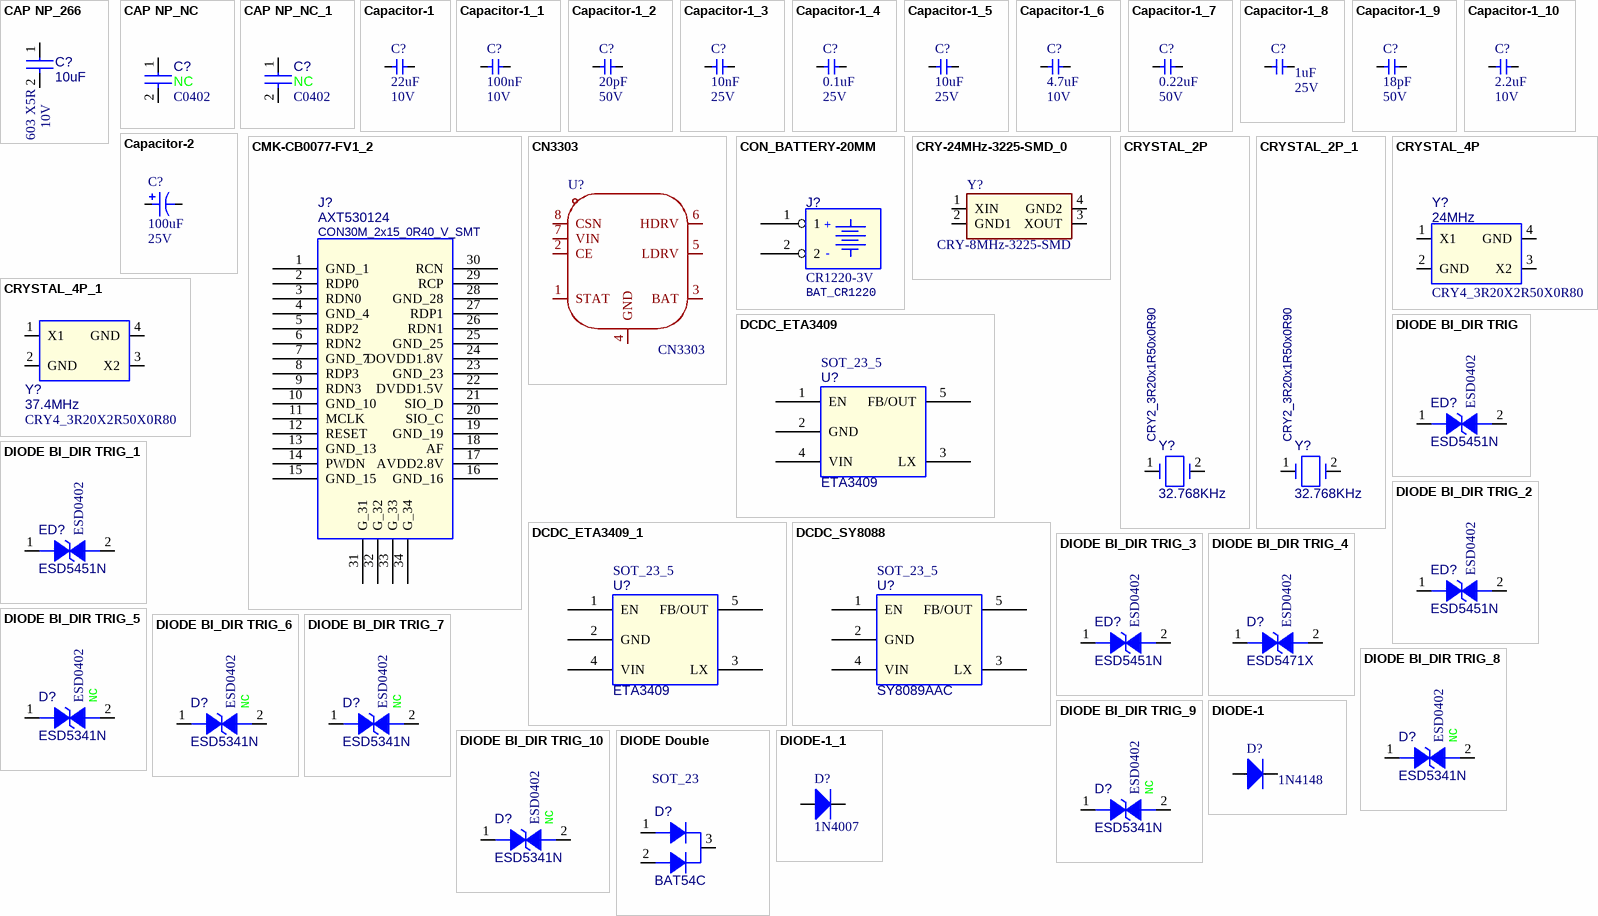
[diagram p7: symbols CAP NP_266 to DIODE-1_1]

## CAP NP_266
designator C?, comment 10uF  Dielectric: X5R  PCB Footprint: C0603  Voltage: 10V
cap,10.00uF,+/-10%,10V,X5R,C0603; Part Reference: C2248; Manufacturer: TDK; RK PN: C1608X5R1A106K080AC; Priority: A; Tolerance: 10%; Value: 10uF; Part Type: C0603; Manufacturer PN: C1608X5R1A106K080AC; Created by: JJJ
footprint C0603
pins: 1, 2

## CAP NP_NC
designator C?, comment NC  PCB Footprint: C0402
NC电容，无容值.; Part Reference: C4508; Optional: X; Priority: A; RK PN: 902012106-1; Value: NC; Created by: JJJ; Part Type: NC电容
footprint C0402
pins: 1, 2

## CAP NP_NC_1
designator C?, comment NC  PCB Footprint: C0402
NC电容，无容值.; Part Reference: C6110; Optional: X; Priority: A; RK PN: 902012106-1; Value: NC; Created by: JJJ; Part Type: NC电容
footprint C0402
pins: 1, 2

## Capacitor-1
designator C?, comment 22uF  VoltageRate: 10V
ManufacturingPartNumber: *; Manufacturer: *; SupplierPartNumber: *; Supplier: *
footprint CAP-0402
footprint CAP-0805-S
footprint CAP-0603
pins: 1, 2

## Capacitor-1_1
designator C?, comment 100nF  VoltageRate: 10V
ManufacturingPartNumber: *; Manufacturer: *; SupplierPartNumber: *; Supplier: *
footprint CAP-0402
footprint CAP-0805-S
footprint CAP-0603
pins: 1, 2

## Capacitor-1_2
designator C?, comment 20pF  VoltageRate: 50V
ManufacturingPartNumber: *; Manufacturer: *; SupplierPartNumber: *; Supplier: *
footprint CAP-0402
footprint CAP-0805-S
footprint CAP-0603
pins: 1, 2

## Capacitor-1_3
designator C?, comment 10nF  VoltageRate: 25V
ManufacturingPartNumber: *; Manufacturer: *; SupplierPartNumber: *; Supplier: *
footprint CAP-0402
footprint CAP-0805-S
footprint CAP-0603
pins: 1, 2

## Capacitor-1_4
designator C?, comment 0.1uF  VoltageRate: 25V
ManufacturingPartNumber: *; Manufacturer: *; SupplierPartNumber: *; Supplier: *
footprint CAP-0402
footprint CAP-0805-S
footprint CAP-0603
pins: 1, 2